# Altium schematic symbol library TLP202A.SCHLIB: 1 symbol
Pins are listed as number, name and electrical type; pins without a type are passive.

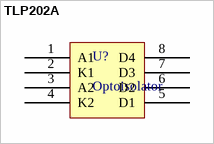
[diagram p0: symbol TLP202A]

## TLP202A
designator U?, comment Optoisolator
footprint SOP8
pins: 1 A1, 2 K1, 3 A2, 4 K2, 5 D1, 6 D2, 7 D3, 8 D4